# EAGLE library part DIMM168 (library SDram_dimm168)
AMP connector
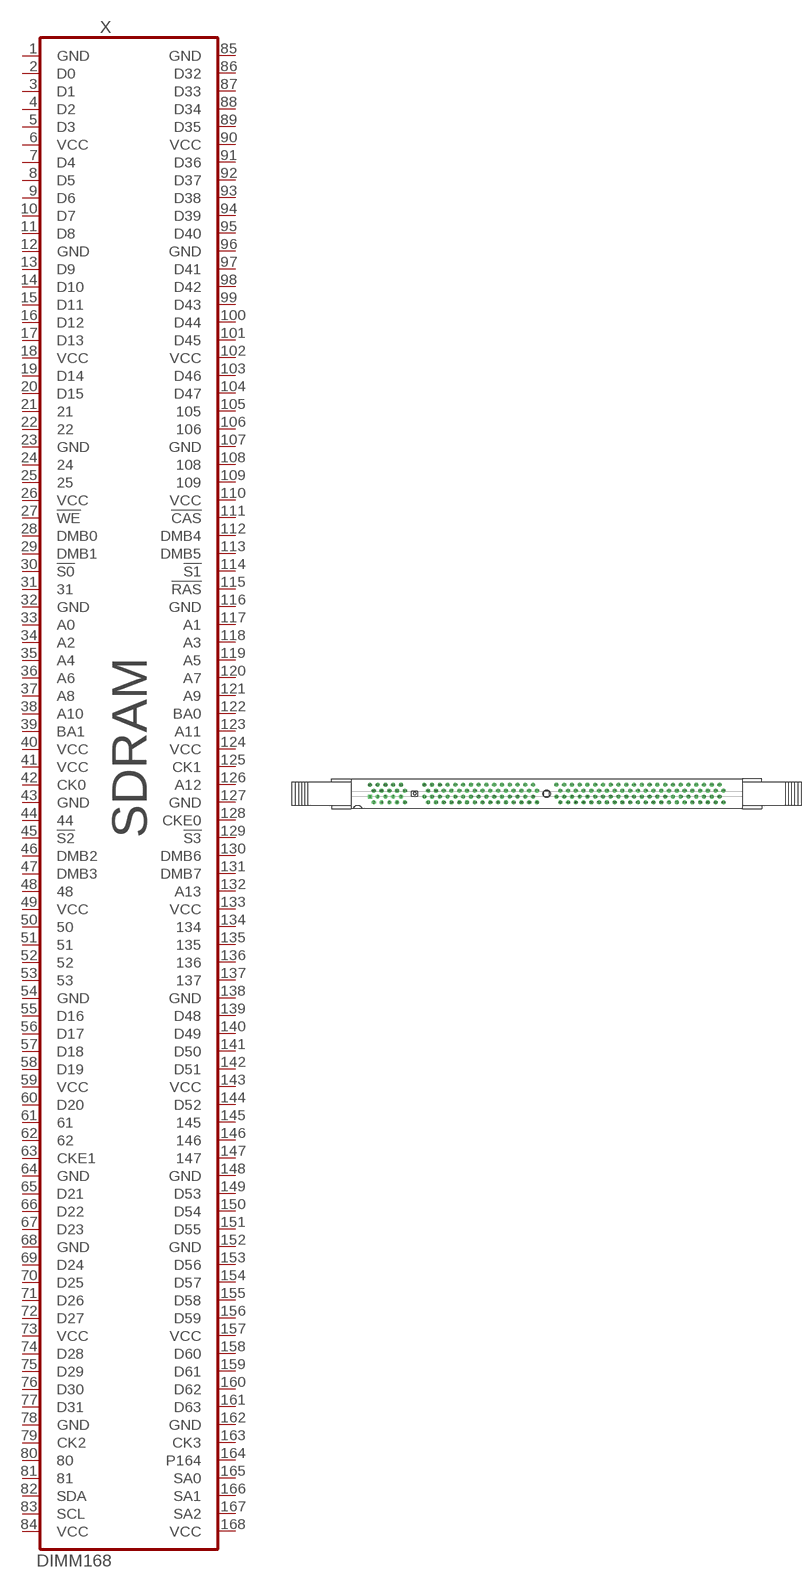
[diagram p0: symbol with the pads of 390052-4; footprint 390052-4]

Designator prefix X

## DIMM168  [390052-4]
1  GND  pas
2  D0  pas
3  D1  pas
4  D2  pas
5  D3  pas
6  VCC  pas
7  D4  pas
8  D5  pas
9  D6  pas
10  D7  pas
11  D8  pas
12  GND  pas
13  D9  pas
14  D10  pas
15  D11  pas
16  D12  pas
17  D13  pas
18  VCC  pas
19  D14  pas
20  D15  pas
21  21  pas
22  22  pas
23  GND  pas
24  24  pas
25  25  pas
26  VCC  pas
27  !WE  pas
28  DMB0  pas
29  DMB1  pas
30  !S0  pas
31  31  pas
32  GND  pas
33  A0  pas
34  A2  pas
35  A4  pas
36  A6  pas
37  A8  pas
38  A10  pas
39  BA1  pas
40  VCC  pas
41  VCC  pas
42  CK0  pas
43  GND  pas
44  44  pas
45  !S2  pas
46  DMB2  pas
47  DMB3  pas
48  48  pas
49  VCC  pas
50  50  pas
51  51  pas
52  52  pas
53  53  pas
54  GND  pas
55  D16  pas
56  D17  pas
57  D18  pas
58  D19  pas
59  VCC  pas
60  D20  pas
61  61  pas
62  62  pas
63  CKE1  pas
64  GND  pas
65  D21  pas
66  D22  pas
67  D23  pas
68  GND  pas
69  D24  pas
70  D25  pas
71  D26  pas
72  D27  pas
73  VCC  pas
74  D28  pas
75  D29  pas
76  D30  pas
77  D31  pas
78  GND  pas
79  CK2  pas
80  80  pas
81  81  pas
82  SDA  pas
83  SCL  pas
84  VCC  pas
85  GND  pas
86  D32  pas
87  D33  pas
88  D34  pas
89  D35  pas
90  VCC  pas
91  D36  pas
92  D37  pas
93  D38  pas
94  D39  pas
95  D40  pas
96  GND  pas
97  D41  pas
98  D42  pas
99  D43  pas
100  D44  pas
101  D45  pas
102  VCC  pas
103  D46  pas
104  D47  pas
105  105  pas
106  106  pas
107  GND  pas
108  108  pas
109  109  pas
110  VCC  pas
111  !CAS  pas
112  DMB4  pas
113  DMB5  pas
114  !S1  pas
115  !RAS  pas
116  GND  pas
117  A1  pas
118  A3  pas
119  A5  pas
120  A7  pas
121  A9  pas
122  BA0  pas
123  A11  pas
124  VCC  pas
125  CK1  pas
126  A12  pas
127  GND  pas
128  CKE0  pas
129  !S3  pas
130  DMB6  pas
131  DMB7  pas
132  A13  pas
133  VCC  pas
134  134  pas
135  135  pas
136  136  pas
137  137  pas
138  GND  pas
139  D48  pas
140  D49  pas
141  D50  pas
142  D51  pas
143  VCC  pas
144  D52  pas
145  145  pas
146  146  pas
147  147  pas
148  GND  pas
149  D53  pas
150  D54  pas
151  D55  pas
152  GND  pas
153  D56  pas
154  D57  pas
155  D58  pas
156  D59  pas
157  VCC  pas
158  D60  pas
159  D61  pas
160  D62  pas
161  D63  pas
162  GND  pas
163  CK3  pas
164  P164  pas
165  SA0  pas
166  SA1  pas
167  SA2  pas
168  VCC  pas

## Footprint 390052-4 (pad centres in mm)
Std. DRAM 3.3 Volt
drill 0.813 square: 1 -57.785,-0.953
drill 0.813 octagon: 2 -56.515,-2.857; 3 -55.245,-0.953; 4 -53.975,-2.857; 5 -52.705,-0.953; 6 -51.435,-2.857; 7 -50.165,-0.953; 8 -48.895,-2.857; 9 -47.625,-0.953; 10 -46.355,-2.857; 11 -40.005,-0.953; 12 -38.735,-2.857; 13 -37.465,-0.953; 14 -36.195,-2.857; 15 -34.925,-0.953; 16 -33.655,-2.857; 17 -32.385,-0.953; 18 -31.115,-2.857; 19 -29.845,-0.953; 20 -28.575,-2.857; 21 -27.305,-0.953; 22 -26.035,-2.857; 23 -24.765,-0.953; 24 -23.495,-2.857; 25 -22.225,-0.953; 26 -20.955,-2.857; 27 -19.685,-0.953; 28 -18.415,-2.857; 29 -17.145,-0.953; 30 -15.875,-2.857; 31 -14.605,-0.953; 32 -13.335,-2.857; 33 -12.065,-0.953; 34 -10.795,-2.857; 35 -9.525,-0.953; 36 -8.255,-2.857; 37 -6.985,-0.953; 38 -5.715,-2.857; 39 -4.445,-0.953; 40 -3.175,-2.857; 41 3.175,-0.953; 42 4.445,-2.857; 43 5.715,-0.953; 44 6.985,-2.857; 45 8.255,-0.953; 46 9.525,-2.857; 47 10.795,-0.953; 48 12.065,-2.857; 49 13.335,-0.953; 50 14.605,-2.857; 51 15.875,-0.953; 52 17.145,-2.857; 53 18.415,-0.953; 54 19.685,-2.857; 55 20.955,-0.953; 56 22.225,-2.857; 57 23.495,-0.953; 58 24.765,-2.857; 59 26.035,-0.953; 60 27.305,-2.857; 61 28.575,-0.953; 62 29.845,-2.857; 63 31.115,-0.953; 64 32.385,-2.857; 65 33.655,-0.953; 66 34.925,-2.857; 67 36.195,-0.953; 68 37.465,-2.857; 69 38.735,-0.953; 70 40.005,-2.857; 71 41.275,-0.953; 72 42.545,-2.857; 73 43.815,-0.953; 74 45.085,-2.857; 75 46.355,-0.953; 76 47.625,-2.857; 77 48.895,-0.953; 78 50.165,-2.857; 79 51.435,-0.953; 80 52.705,-2.857; 81 53.975,-0.953; 82 55.245,-2.857; 83 56.515,-0.953; 84 57.785,-2.857; 85 -57.785,2.857; 86 -56.515,0.953; 87 -55.245,2.857; 88 -53.975,0.953; 89 -52.705,2.857; 90 -51.435,0.953; 91 -50.165,2.857; 92 -48.895,0.953; 93 -47.625,2.857; 94 -46.355,0.953; 95 -40.005,2.857; 96 -38.735,0.953; 97 -37.465,2.857; 98 -36.195,0.953; 99 -34.925,2.857; 100 -33.655,0.953; 101 -32.385,2.857; 102 -31.115,0.953; 103 -29.845,2.857; 104 -28.575,0.953; 105 -27.305,2.857; 106 -26.035,0.953; 107 -24.765,2.857; 108 -23.495,0.953; 109 -22.225,2.857; 110 -20.955,0.953; 111 -19.685,2.857; 112 -18.415,0.953; 113 -17.145,2.857; 114 -15.875,0.953; 115 -14.605,2.857; 116 -13.335,0.953; 117 -12.065,2.857; 118 -10.795,0.953; 119 -9.525,2.857; 120 -8.255,0.953; 121 -6.985,2.857; 122 -5.715,0.953; 123 -4.445,2.857; 124 -3.175,0.953; 125 3.175,2.857; 126 4.445,0.953; 127 5.715,2.857; 128 6.985,0.953; 129 8.255,2.857; 130 9.525,0.953; 131 10.795,2.857; 132 12.065,0.953; 133 13.335,2.857; 134 14.605,0.953; 135 15.875,2.857; 136 17.145,0.953; 137 18.415,2.857; 138 19.685,0.953; 139 20.955,2.857; 140 22.225,0.953; 141 23.495,2.857; 142 24.765,0.953; 143 26.035,2.857; 144 27.305,0.953; 145 28.575,2.857; 146 29.845,0.953; 147 31.115,2.857; 148 32.385,0.953; 149 33.655,2.857; 150 34.925,0.953; 151 36.195,2.857; 152 37.465,0.953; 153 38.735,2.857; 154 40.005,0.953; 155 41.275,2.857; 156 42.545,0.953; 157 43.815,2.857; 158 45.085,0.953; 159 46.355,2.857; 160 47.625,0.953; 161 48.895,2.857; 162 50.165,0.953; 163 51.435,2.857; 164 52.705,0.953; 165 53.975,2.857; 166 55.245,0.953; 167 56.515,2.857; 168 57.785,0.953
hole 2.362 at 0,0
hole 0.813 at -43.18,0